# Altium integrated library 220 TO 5 & 3.3.IntLib: 1 symbol
Pins are listed as number, name and electrical type; pins without a type are passive.

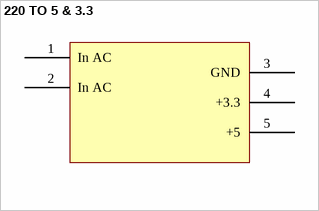
[diagram p0: symbol 220 TO 5 & 3.3]

## 220 TO 5 & 3.3
designator ?
footprint 220 TO 5 & 3.3
pins: 1 In AC, 2 In AC, 3 GND, 4 +3.3, 5 +5